# Altium integrated library FMP Power Mgt.IntLib: 6 symbols
Pins are listed as number, name and electrical type; pins without a type are passive.

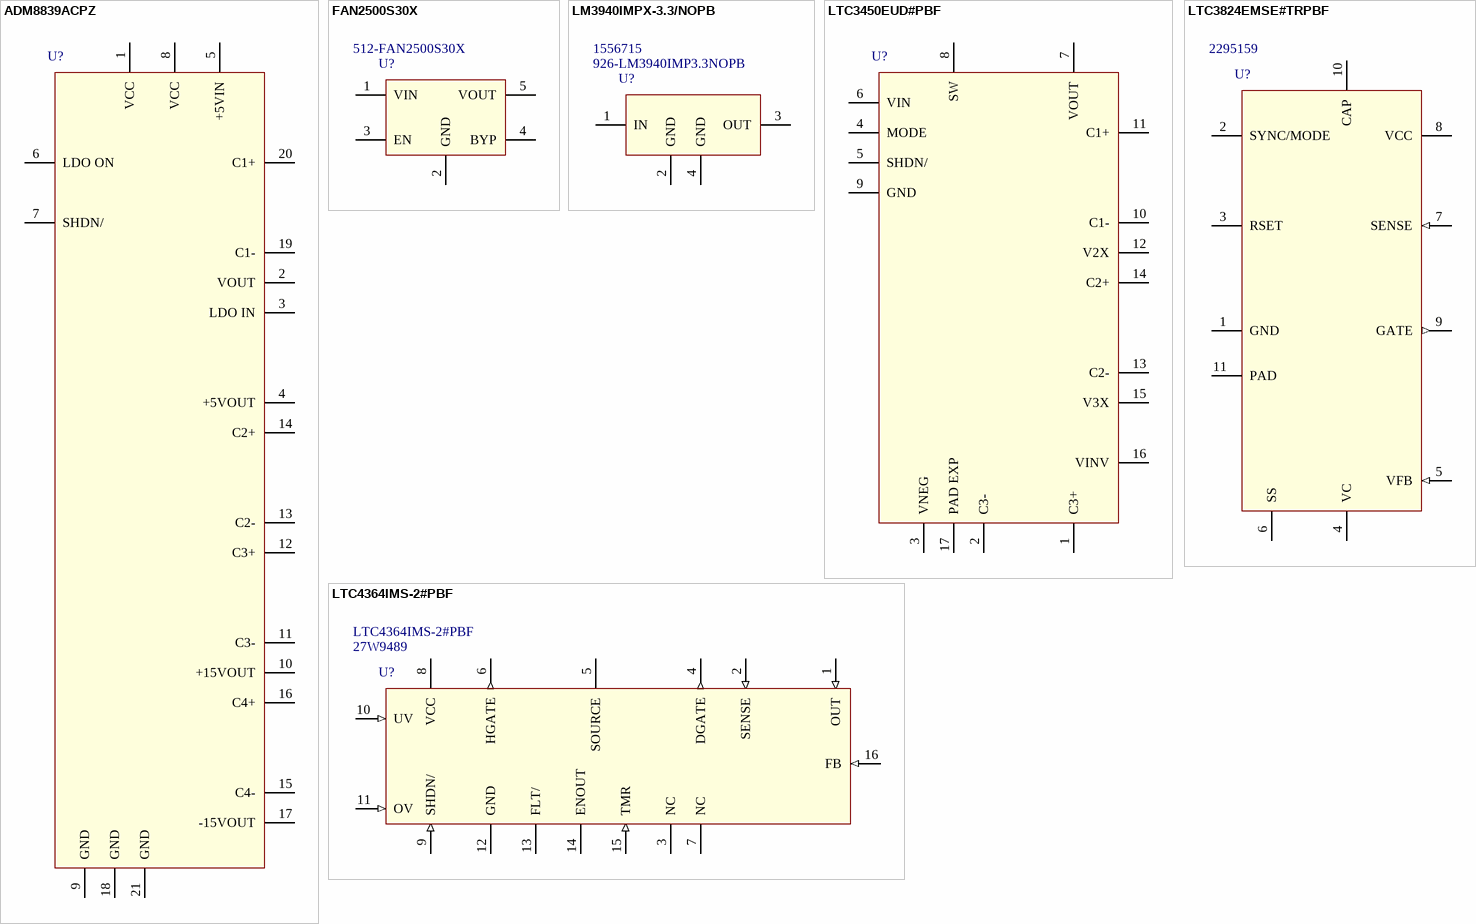
[diagram p0: symbols ADM8839ACPZ to LTC4364IMS-2#PBF]

## ADM8839ACPZ
designator U?
IC CHARGE PUMP REG TFT 20LFCSP; Manufacturer: Analog Devices Inc; Manufacturer Part Number: ADM8839ACPZ; Voltage - Input: 2.7 V ~ 4.2 V; Number of Outputs: 3; Voltage - Output: -15V, 5V, 15V; Supplier 1: Digi-Key; RoHS: RoHS Compliant; Category: Integrated Circuits (ICs); Stock 1: 0; Pricing 1: 126=0 (USD); Packaging: Tray; Applications: Converter, TFT, LCD; Operating Temperature: -40°C ~ 85°C; Mounting Type: Surface Mount; Package / Case: 20-VFQFN Exposed Pad, CSP; Supplier Device Package: 20-LFCSP-VQ (4x4); ComponentLink1URL: http://www.analog.com/static/imported-files/data_sheets/ADM8839.pdf; ComponentLink1Description: http://www.analog.com/static/imported-files/data_sheets/ADM8839.pdf; Supplier Part Number 1: ADM8839ACPZ-ND
footprint LFCSP-20 (20-Lead LFCSP_VQ)
pins: 1 VCC, 2 VOUT, 3 LDO IN, 4 +5VOUT, 5 +5VIN, 6 LDO ON, 7 SHDN/, 8 VCC, 9 GND, 10 +15VOUT, 11 C3-, 12 C3+, 13 C2-, 14 C2+, 15 C4-, 16 C4+, 17 -15VOUT, 18 GND, 19 C1-, 20 C1+, 21 GND

## FAN2500S30X
designator U?  Supplier Part Number 2: 512-FAN2500S30X
IC REG LDO 3V 0.1A SOT23-5; Manufacturer: Fairchild Semiconductor; Manufacturer Part Number: FAN2500S30X; Regulator Topology: Positive Fixed; Current - Output: 100mA; Voltage - Dropout (Typical): 0.1V @ 100mA; Number of Regulators: 1; Voltage - Input: Up to 6.5V; Input Voltage MAX: 6.5 V; Number of Outputs: 1 Output; Output Current: 100 mA; Output Type: Fixed; Dropout Voltage - Max: 140 mV; Voltage Regulation Accuracy: 2 %; Input Voltage MIN: + 2.7 V; Line Regulation: 0.3 % / V; Supplier 1: Digi-Key; RoHS: RoHS Compliant; Category: Integrated Circuits (ICs); Stock 1: 14095; Pricing 1: 1=0.72, 10=0.634, 25=0.56, 100=0.4882, 250=0.42496, 500=0.36174, 1000=0.28974 (USD); Packaging: Cut Tape (CT); Voltage - Output: 3V; Current - Limit (Min): -; Operating Temperature: -40°C ~ 125°C; Mounting Type: Surface Mount; Package / Case: SC-74A, SOT-753; Supplier Device Package: SOT-23-5; ComponentLink1URL: http://www.fairchildsemi.com/datasheets/FA/FAN2500.pdf; ComponentLink1Description: http://www.fairchildsemi.com/datasheets/FA/FAN2500.pdf; Supplier Part Number 1: FAN2500S30XCT-ND; Supplier 2: Mouser; Stock 2: 2958; Pricing 2: 1=0.945, 10=0.733, 100=0.474, 1000=0.378, 3000=0.319, 9000=0.308, 24000=0.296, 45000=0.290 (AUD); Output Voltage: 3 V; Series: FAN2500; Brand: Fairchild Semiconductor; Mounting Style: SMD/SMT; Load Regulation: 2 %; Maximum Operating Temperature: + 125 C; Minimum Operating Temperature: - 40 C; Standard Pack Qty: 3000; RoHS - Mouser: Y; Minimum Order Quantity: 1; Reeling: True; ComponentLink2URL: http://www.mouser.com/ds/2/149/FAN2500-192391.pdf; ComponentLink2Description: http://www.mouser.com/ds/2/149/FAN2500-192391.pdf
footprint SOT23-5L (SOT-23 5-LEAD)
pins: 1 VIN (power), 2 GND (power), 3 EN, 4 BYP, 5 VOUT (power)

## LM3940IMPX-3.3/NOPB
designator U?  Supplier Part Number 2: 926-LM3940IMP3.3NOPB  Supplier Part Number 3: 1556715
IC REG LDO 3.3V 1A SOT223; Manufacturer: Texas Instruments; Manufacturer Part Number: LM3940IMPX-3.3/NOPB; Regulator Topology: Positive Fixed; Voltage - Dropout (Typical): 0.5V @ 1A; Number of Regulators: 1; Voltage - Input: Up to 7.5V; Input Bias Current - Max: 10 mA; Input Voltage MAX: 7.5 V; Number of Outputs: 1 Output; Output Type: Fixed; Dropout Voltage - Max: 0.8 V at 1A, 0.15 V at 100 mA; Input Voltage MIN: 4.5 V; Line Regulation: 40 mV; Load Regulation: 50 mV; Supplier 1: Digi-Key; RoHS: RoHS Compliant; Category: Integrated Circuits (ICs); Stock 1: 4000; Pricing 1: 2000=0.6132, 6000=0.58254, 10000=0.56064, 50000=0.5475 (USD); Packaging: Tape & Reel (TR); Voltage - Output: 3.3V; Current - Output: 1A; Current - Limit (Min): -; Operating Temperature: -40°C ~ 125°C; Mounting Type: Surface Mount; Package / Case: TO-261-4, TO-261AA; Supplier Device Package: SOT-223; ComponentLink1URL: http://www.ti.com/lit/ds/symlink/lm3940.pdf; ComponentLink1Description: http://www.ti.com/lit/ds/symlink/lm3940.pdf; Supplier Part Number 1: LM3940IMPX-3.3/NOPBTR-ND; Supplier 2: Mouser; Stock 2: 6119; Pricing 2: 1=2.07, 10=1.65, 100=1.27, 500=0.983, 1000=0.887, 2000=0.786, 10000=0.757 (AUD); Output Current: 1 A; Output Voltage: 3.3 V; Series: LM3940; Brand: Texas Instruments; Mounting Style: SMD/SMT; Maximum Operating Temperature: + 125 C; Minimum Operating Temperature: - 40 C; Standard Pack Qty: 1000; RoHS - Mouser: Y; Minimum Order Quantity: 1; Reeling: True; ComponentLink2URL: http://www.mouser.com/ds/2/405/snvs114f-522417.pdf; ComponentLink2Description: http://www.mouser.com/ds/2/405/snvs114f-522417.pdf; Supplier 3: Farnell; Stock 3: 338; Pricing 3: 1=1,46, 10=1,08, 25=0,99, 50=0,937, 100=0,81, 200=0,758, 200=0,527, 2000=0,466 (GBP); ComponentLink3URL: http://www.farnell.com/datasheets/29452.pdf; ComponentLink3Description: http://www.farnell.com/datasheets/29452.pdf
footprint SOT-223 (PLASTIC SMALL-OUTLINE)
pins: 1 IN (power), 2 GND (power), 3 OUT (power), 4 GND (power)

## LTC3450EUD#PBF
designator U?
IC CONV PS TRIPLE TFT/LCD 16QFN; Manufacturer: Linear Technology; Manufacturer Part Number: LTC3450EUD#PBF; Voltage - Input: 1.5 V ~ 4.6 V; Number of Outputs: 3; Voltage - Output: 5.1V, -5V, ±10V, ±15V; Supplier 1: Digi-Key; RoHS: RoHS Compliant; Category: Integrated Circuits (ICs); Stock 1: 614; Pricing 1: 1=5.03, 25=3.57, 100=2.94 (USD); Packaging: Tube; Applications: Converter, TFT, LCD; Operating Temperature: -40°C ~ 85°C; Mounting Type: Surface Mount; Package / Case: 16-WFQFN Exposed Pad; Supplier Device Package: 16-QFN-EP (3x3); ComponentLink1URL: http://www.linear.com/docs/1759; ComponentLink1Description: http://www.linear.com/docs/1759; Supplier Part Number 1: LTC3450EUD#PBF-ND
footprint QFN-16 (16-Lead Plastic QFN)
pins: 1 C3+, 2 C3-, 3 VNEG (power), 4 MODE, 5 SHDN/, 6 VIN (power), 7 VOUT (power), 8 SW, 9 GND (power), 10 C1-, 11 C1+, 12 V2X, 13 C2-, 14 C2+, 15 V3X, 16 VINV, 17 PAD EXP (power)

## LTC3824EMSE#TRPBF
designator U?  Supplier Part Number 2: 2295159
IC REG CTRLR BUCK PWM CM 10-MSOP; Manufacturer: Linear Technology; Manufacturer Part Number: LTC3824EMSE#TRPBF; Number of Outputs: 1; Frequency - Max: 460kHz; Duty Cycle: 100%; Voltage - Supply: 4 V ~ 60 V; Buck: Yes; Boost: No; Supplier 1: Digi-Key; RoHS: RoHS Compliant; Category: Integrated Circuits (ICs); Stock 1: 6667; Pricing 1: 1=4.64, 25=4.1456, 100=3.7311 (USD); Packaging: Cut Tape (CT); Flyback: No; Inverting: No; Doubler: No; Divider: No; Cuk: No; Isolated: No; Operating Temperature: -40°C ~ 125°C; Package / Case: 10-TFSOP, 10-MSOP (0.118", 3.00mm Width) Exposed Pad; Supplier Device Package: 10-MSOP-EP; ComponentLink1URL: http://www.linear.com/docs/15317; ComponentLink1Description: http://www.linear.com/docs/15317; Supplier Part Number 1: LTC3824EMSE#TRPBFCT-ND; Supplier 2: Farnell; Stock 2: 94; Pricing 2: 1=4,31, 10=3,77, 100=3,44 (GBP); ComponentLink2URL: http://www.farnell.com/simulation/1753474.zip; ComponentLink2Description: http://www.farnell.com/simulation/1753474.zip; ComponentLink3URL: http://www.farnell.com/datasheets/1670634.pdf; ComponentLink3Description: http://www.farnell.com/datasheets/1670634.pdf; ComponentLink4URL: http://www.farnell.com/datasheets/1698516.pdf; ComponentLink4Description: http://www.farnell.com/datasheets/1698516.pdf
footprint MSE-10 (10-Lead Plastic MSOP, Exposed Die Pad)
pins: 1 GND (power), 2 SYNC/MODE, 3 RSET, 4 VC, 5 VFB (in), 6 SS, 7 SENSE (in), 8 VCC (power), 9 GATE (out), 10 CAP, 11 PAD (power)

## LTC4364IMS-2#PBF
designator U?  Supplier Part Number 2: 27W9489  Supplier Part Number 3: LTC4364IMS-2#PBF
IC SURGE STOPPER W/DIODE 16MSOP; Manufacturer: Linear Technology; Voltage - Working: 4 ~ 80V; Voltage - Clamping: Adjustable; Number of Circuits: 1; Controller Applications: Automotive / Avionic Surge Protection, Hot Swap / Live Insertion, Battery Powered Systems; Input Voltage: 12; Supply Voltage Min: 4; Supply Voltage Max: 80; No. of Pins: 16; Supplier 1: Digi-Key; Manufacturer Part Number: LTC4364IMS-2#PBF; RoHS: RoHS Compliant; Category: Circuit Protection; Stock 1: 0; Pricing 1: 1=8.47, 25=5.67, 100=4.82 (USD); Packaging: Tube; Technology: Mixed Technology; Power (Watts): -; Applications: Automotive; Package / Case: 16-TFSOP (0.118", 3.00mm Width); Supplier Device Package: 16-MSOP; ComponentLink1URL: http://cds.linear.com/docs/en/datasheet/436412f.pdf; ComponentLink1Description: http://cds.linear.com/docs/en/datasheet/436412f.pdf; Supplier Part Number 1: LTC4364IMS-2#PBF-ND; Supplier 2: Newark; Stock 2: 14; Pricing 2: 1=8,49, 25=5,69, 100=4,82 (USD); ComponentLink2URL: http://www.farnell.com/datasheets/1648693.pdf; ComponentLink2Description: http://www.farnell.com/datasheets/1648693.pdf; ComponentLink3URL: http://www.farnell.com/simulation/1753763.zip; ComponentLink3Description: http://www.farnell.com/simulation/1753763.zip; Supplier 3: Arrow; Stock 3: 75; Pricing 3: 1=5,67, 100=4,82 (); Package Quantity: 1; ComponentLink4URL: http://components.arrow.com/part/detail/53893703S191821N7433?region=na; ComponentLink4Description: http://components.arrow.com/part/detail/53893703S191821N7433?region=na
footprint MSOP-16 (16-Lead Plastic MSOP)
pins: 1 OUT (in), 2 SENSE (in), 3 NC, 4 DGATE (out), 5 SOURCE, 6 HGATE (out), 7 NC, 8 VCC (power), 9 SHDN/ (in), 10 UV (in), 11 OV (in), 12 GND (power), 13 FLT/ (oc), 14 ENOUT (oc), 15 TMR (in), 16 FB (in)